# Altium integrated library Varistor.IntLib: 1 symbol
Pins are listed as number, name and electrical type; pins without a type are passive.

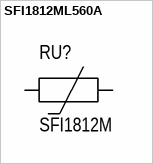
[diagram p0: symbol SFI1812ML560A]

## SFI1812ML560A
designator RU?, comment SFI1812M
Varistor DC-45V AC-35V 1mA-56V Peak-800A; Manufacture: SFI; Model: SFI1812ML560A; Name: Варистор; HelpURL: https://docviewer.yandex.ru/view/1075196539/?page=8&*=Ajg6%2BTMzs%2Fa32ZMevETbZeq4ge17InVybCI6Imh0dHBzOi8vcmFkaW9kZXRhbGkuY29tL21lZGlhL2NhdGFsb2cvcHJvZHVjdC9kL2EvZGF0YXNoZWV0XzUucGRmIiwidGl0bGUiOiJkYXRhc2hlZXRfNS5wZGYiLCJub2lmcmFtZSI6dHJ1ZSwidWlkIjoiMTA3NTE5NjUzOSIsInRzIjoxNjIzNDExMDMxMDUyLCJ5dSI6IjIyNjQzMzQxNTE1NjAzMTYzMzciLCJzZXJwUGFyYW1zIjoidG09MTYyMzQwMTI1MiZ0bGQ9cnUmbGFuZz1lbiZuYW1lPWRhdGFzaGVldF81LnBkZiZ0ZXh0PXNmaTE4MTJtbDU2MGErZGF0YXNoZWV0JnVybD1odHRwcyUzQS8vcmFkaW9kZXRhbGkuY29tL21lZGlhL2NhdGFsb2cvcHJvZHVjdC9kL2EvZGF0YXNoZWV0XzUucGRmJmxyPTExMDA5Jm1pbWU9cGRmJmwxMG49cnUmc2lnbj03NzUzYzI3MTY5MzkwNWJhNzI4ODBlMGQ4Yjc0Mjc2MyZrZXlubz0wIn0%3D&lang=en; Value: SFI1812M; Case: RU1812
footprint RU1812
pins: 1, 2